# EAGLE library part BQ24040 (library IC)
http://www.alldatasheet.com/datasheet-pdf/pdf/311736/TI/BQ24040.html
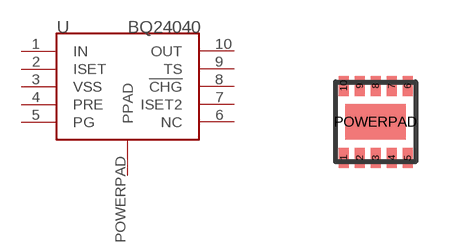
[diagram p37: symbol with the pads of SON10; footprint SON10]

Designator prefix U

## BQ24040-DFN10  [SON10]
1  IN
2  ISET
3  VSS
4  PRE
5  PG
6  NC
7  ISET2
8  !CHG
9  TS
10  OUT
POWERPAD  PPAD

## Footprint SON10 (pad centres in mm)
smd 0.25 x 0.5: 1 -0.8,-0.9; 2 -0.4,-0.9; 3 0,-0.9; 4 0.4,-0.9; 5 0.8,-0.9; 6 0.8,0.9; 7 0.4,0.9; 8 0,0.9; 9 -0.4,0.9; 10 -0.8,0.9
smd 1.524 x 0.889: POWERPAD 0,0